# EAGLE library part ATMEGA2560 (library CPSS_CPU)
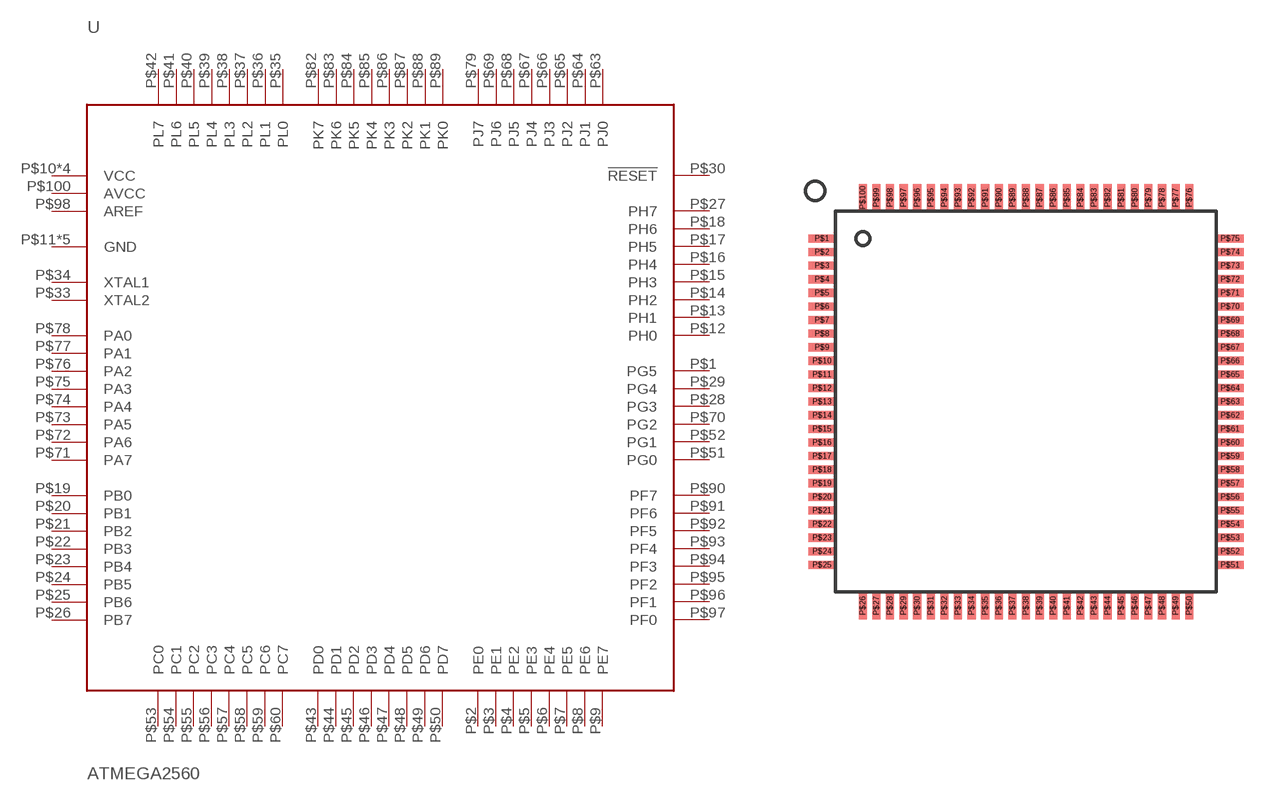
[diagram p3: symbol with the pads of TQFP-100; footprint TQFP-100]

Designator prefix -

## ATMEGA2560  [TQFP-100]
P$1  PG5
P$2  PE0
P$3  PE1
P$4  PE2
P$5  PE3
P$6  PE4
P$7  PE5
P$8  PE6
P$9  PE7
P$10  VCC  pwr
P$11  GND  sup
P$12  PH0
P$13  PH1
P$14  PH2
P$15  PH3
P$16  PH4
P$17  PH5
P$18  PH6
P$19  PB0
P$20  PB1
P$21  PB2
P$22  PB3
P$23  PB4
P$24  PB5
P$25  PB6
P$26  PB7
P$27  PH7
P$28  PG3
P$29  PG4
P$30  !RESET
P$31  VCC  pwr
P$32  GND  sup
P$33  XTAL2
P$34  XTAL1
P$35  PL0
P$36  PL1
P$37  PL2
P$38  PL3
P$39  PL4
P$40  PL5
P$41  PL6
P$42  PL7
P$43  PD0
P$44  PD1
P$45  PD2
P$46  PD3
P$47  PD4
P$48  PD5
P$49  PD6
P$50  PD7
P$51  PG0
P$52  PG1
P$53  PC0
P$54  PC1
P$55  PC2
P$56  PC3
P$57  PC4
P$58  PC5
P$59  PC6
P$60  PC7
P$61  VCC  pwr
P$62  GND  sup
P$63  PJ0
P$64  PJ1
P$65  PJ2
P$66  PJ3
P$67  PJ4
P$68  PJ5
P$69  PJ6
P$70  PG2
P$71  PA7
P$72  PA6
P$73  PA5
P$74  PA4
P$75  PA3
P$76  PA2
P$77  PA1
P$78  PA0
P$79  PJ7
P$80  VCC  pwr
P$81  GND  sup
P$82  PK7
P$83  PK6
P$84  PK5
P$85  PK4
P$86  PK3
P$87  PK2
P$88  PK1
P$89  PK0
P$90  PF7
P$91  PF6
P$92  PF5
P$93  PF4
P$94  PF3
P$95  PF2
P$96  PF1
P$97  PF0
P$98  AREF  in
P$99  GND  sup
P$100  AVCC  pwr

## Footprint TQFP-100 (pad centres in mm)
smd 1 x 0.3: P$1 -7.25,5.75; P$2 -7.25,5.25; P$3 -7.25,4.75; P$4 -7.25,4.25; P$5 -7.25,3.75; P$6 -7.25,3.25; P$7 -7.25,2.75; P$8 -7.25,2.25; P$9 -7.25,1.75; P$10 -7.25,1.25; P$11 -7.25,0.75; P$12 -7.25,0.25; P$13 -7.25,-0.25; P$14 -7.25,-0.75; P$15 -7.25,-1.25; P$16 -7.25,-1.75; P$17 -7.25,-2.25; P$18 -7.25,-2.75; P$19 -7.25,-3.25; P$20 -7.25,-3.75; P$21 -7.25,-4.25; P$22 -7.25,-4.75; P$23 -7.25,-5.25; P$24 -7.25,-5.75; P$25 -7.25,-6.25; P$51 7.75,-6.25; P$52 7.75,-5.75; P$53 7.75,-5.25; P$54 7.75,-4.75; P$55 7.75,-4.25; P$56 7.75,-3.75; P$57 7.75,-3.25; P$58 7.75,-2.75; P$59 7.75,-2.25; P$60 7.75,-1.75; P$61 7.75,-1.25; P$62 7.75,-0.75; P$63 7.75,-0.25; P$64 7.75,0.25; P$65 7.75,0.75; P$66 7.75,1.25; P$67 7.75,1.75; P$68 7.75,2.25; P$69 7.75,2.75; P$70 7.75,3.25; P$71 7.75,3.75; P$72 7.75,4.25; P$73 7.75,4.75; P$74 7.75,5.25; P$75 7.75,5.75
smd 0.3 x 1: P$26 -5.75,-7.75; P$27 -5.25,-7.75; P$28 -4.75,-7.75; P$29 -4.25,-7.75; P$30 -3.75,-7.75; P$31 -3.25,-7.75; P$32 -2.75,-7.75; P$33 -2.25,-7.75; P$34 -1.75,-7.75; P$35 -1.25,-7.75; P$36 -0.75,-7.75; P$37 -0.25,-7.75; P$38 0.25,-7.75; P$39 0.75,-7.75; P$40 1.25,-7.75; P$41 1.75,-7.75; P$42 2.25,-7.75; P$43 2.75,-7.75; P$44 3.25,-7.75; P$45 3.75,-7.75; P$46 4.25,-7.75; P$47 4.75,-7.75; P$48 5.25,-7.75; P$49 5.75,-7.75; P$50 6.25,-7.75; P$76 6.25,7.25; P$77 5.75,7.25; P$78 5.25,7.25; P$79 4.75,7.25; P$80 4.25,7.25; P$81 3.75,7.25; P$82 3.25,7.25; P$83 2.75,7.25; P$84 2.25,7.25; P$85 1.75,7.25; P$86 1.25,7.25; P$87 0.75,7.25; P$88 0.25,7.25; P$89 -0.25,7.25; P$90 -0.75,7.25; P$91 -1.25,7.25; P$92 -1.75,7.25; P$93 -2.25,7.25; P$94 -2.75,7.25; P$95 -3.25,7.25; P$96 -3.75,7.25; P$97 -4.25,7.25; P$98 -4.75,7.25; P$99 -5.25,7.25; P$100 -5.75,7.25